# Altium footprint library Triac_Pcb.PcbLib: 4 footprints
Each footprint in its own frame and in the unit in brackets; x right, y up, seen from the top. Pads: shape width x height; smd on the part's side, far side on the other; paste and mask are expansions set on the pad; w line width, h text height; cw(c..) or ccw(c..) is an arc to the next point about the centre after c.
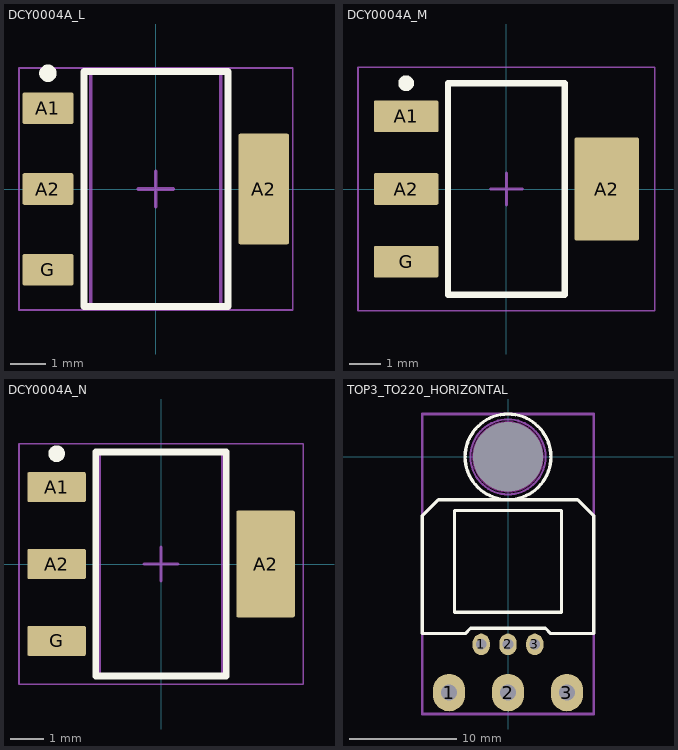
[diagram p0: the footprints below, top view; thin cyan lines are the x and y axes]

## DCY0004A_L [mm] "SOT223, 4-Leads, Body 6.7x3.7mm, Pitch 2.3mm, IPC High Density"
height 1.8
pads (4):
  rrect11% 1.45x0.9 smd: A1(-3.075,2.3) A2(-3.075,0) G(-3.075,-2.3)
  rrect7% 1.45x3.15 smd: A2(3.075,0)
Top Overlay:
  circle w0.25: c-3.075,3.3 r0.125
  lines w0.2: -2.05,-3.35 -2.05,3.35 2.05,3.35 2.05,-3.35 -2.05,-3.35
Mechanical 1:
  text ".Designator" at -1.651,-0.381 h0.8
Mechanical 13:
  lines w0.1: -1.85,-3.35 -1.85,3.35 1.85,3.35 1.85,-3.35 -1.85,-3.35
Mechanical 15:
  lines w0.05: -3.9,-3.45 -3.9,3.45 3.9,3.45 3.9,-3.45 -3.9,-3.45
  lines w0.1: -0.5,0 0.5,0 ; 0,-0.5 0,0.5
3D body "SOT-223.stp": height 1.62, standoff -0.03, extent -3.5,-3.25 3.5,3.25

## DCY0004A_M [mm] "SOT223, 4-Leads, Body 6.7x3.7mm, Pitch 2.3mm, IPC Low Density"
height 1.8
pads (4):
  rrect10% 2.05x1 smd: A1(-3.175,2.3) A2(-3.175,0) G(-3.175,-2.3)
  rrect5% 2.05x3.25 smd: A2(3.175,0)
Top Overlay:
  circle w0.25: c-3.175,3.35 r0.125
  lines w0.2: -1.85,-3.35 1.85,-3.35 1.85,3.35 -1.85,3.35 -1.85,-3.35
Mechanical 1:
  text ".Designator" at -1.651,-0.381 h0.8
Mechanical 13:
  lines w0.1: -1.85,-3.35 1.85,-3.35 1.85,3.35 -1.85,3.35 -1.85,-3.35
Mechanical 15:
  lines w0.05: -4.7,-3.85 4.7,-3.85 4.7,3.85 -4.7,3.85 -4.7,-3.85
  lines w0.1: -0.5,0 0.5,0 ; 0,-0.5 0,0.5
3D body "SOT-223.stp": height 1.62, standoff -0.03, extent -3.5,-3.25 3.5,3.25

## DCY0004A_N [mm] "SOT223, 4-Leads, Body 6.7x3.7mm, Pitch 2.3mm, IPC Medium Density"
height 1.8
pads (4):
  rrect11% 1.75x0.9 smd: A1(-3.125,2.3) A2(-3.125,0) G(-3.125,-2.3)
  rrect6% 1.75x3.2 smd: A2(3.125,0)
Top Overlay:
  circle w0.25: c-3.125,3.3 r0.125
  lines w0.2: -1.95,-3.35 -1.95,3.35 1.95,3.35 1.95,-3.35 -1.95,-3.35
Mechanical 1:
  text ".Designator" at -1.651,-0.254 h0.8
Mechanical 13:
  lines w0.1: -1.85,-3.35 -1.85,3.35 1.85,3.35 1.85,-3.35 -1.85,-3.35
Mechanical 15:
  lines w0.05: -4.25,-3.6 -4.25,3.6 4.25,3.6 4.25,-3.6 -4.25,-3.6
  lines w0.1: -0.5,0 0.5,0 ; 0,-0.5 0,0.5
3D body "SOT-223.stp": height 1.62, standoff -0.03, extent -3.5,-3.25 3.5,3.25

## TOP3_TO220_HORIZONTAL [mm]
pads (7):
  round 0 hole 6.5 unplated: 0(0,0)
  oval 3x3.5 hole 1.5: 1(-5.5,-22) 2(0,-22) 3(5.5,-22)
  oval 1.6x2 hole 1: 1(-2.5,-17.5) 2(0,-17.5) 3(2.5,-17.5)
Top Overlay:
  circle w0.3: c0,0 r4
  lines w0.3: -8,-16.5 -4,-16.5 -3.5,-16 3.5,-16 4,-16.5 8,-16.5 8,-5.5 6.5,-4 -6.5,-4 -8,-5.5 -8,-16.5 ; -5,-14.5 5,-14.5 5,-5 -5,-5 -5,-14.5
Keep-Out Layer:
  circle w0.2: c0,0 r3.25
Mechanical 13:
  circle w0.2: c0,0 r3.5
  lines w0.254: -8,-24 8,-24 8,4 -8,4 -8,-24
  text ".designator" at -4.475,-12.042 h2
3D body "TOP3_vertical.step": height 0, standoff -4.5, extent -7.732,-31.289 7.768,4.611